# Altium schematic symbol library Capacitors.SchLib: 4 symbols
Pins are listed as number, name and electrical type; pins without a type are passive.

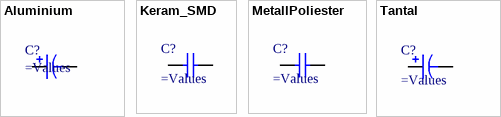
[diagram p0: symbols Aluminium to Tantal]

## Aluminium
designator C?
Алюминевые конденсаторы.
footprint K50_35_6_3X11 (Footprint not found)
pins: 1, 2

## Keram_SMD
designator C?
конденсатор SMD керамический
pins: 1, 2

## MetallPoliester
designator C?
Металопленочные конденсаторы
pins: 1, 2

## Tantal
designator C?
конденсатор танталовый
footprint tantal_smd_a (Molded Capacitor, 2-Leads, Body 3,10x1,55mm)
footprint tantal_smd_b
footprint tantal_smd_c
footprint tantal_smd_d
footprint tantal_smd_e
pins: 1, 2